# EAGLE library part ISO1050CAN (library HyTechDevices)
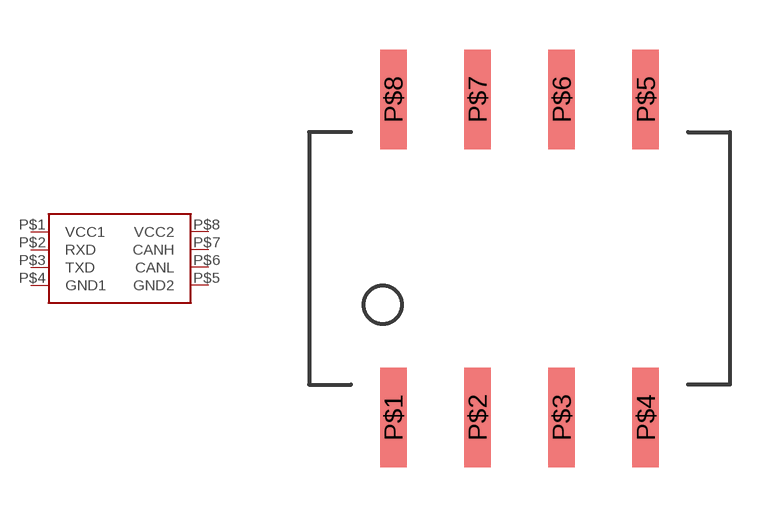
[diagram p85: symbol with the pads of DUB8; footprint DUB8]

Designator prefix -

## ISO1050CAN  [DUB8]
P$1  VCC1
P$2  RXD
P$3  TXD
P$4  GND1
P$5  GND2
P$6  CANL
P$7  CANH
P$8  VCC2

## Footprint DUB8 (pad centres in mm)
smd 0.8 x 3: P$1 -3.81,-4.8; P$2 -1.27,-4.8; P$3 1.27,-4.8; P$4 3.81,-4.8; P$5 3.81,4.8; P$6 1.27,4.8; P$7 -1.27,4.8; P$8 -3.81,4.8